# Altium schematic symbol library SCH - POWER - SWITCHMODE - TI TPS62087RLT.SchLib: 1 symbol
Pins are listed as number, name and electrical type; pins without a type are passive.

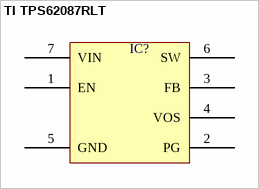
[diagram p0: symbol TI TPS62087RLT]

## TI TPS62087RLT
designator IC?  (value not drawn)
pins: 1 EN, 2 PG, 3 FB, 4 VOS, 5 GND, 6 SW, 7 VIN